# Altium footprint library develboard_footprint.PcbLib: 1 footprints
Each footprint in its own frame and in the unit in brackets; x right, y up, seen from the top. Pads: shape width x height; smd on the part's side, far side on the other; paste and mask are expansions set on the pad; w line width, h text height; cw(c..) or ccw(c..) is an arc to the next point about the centre after c.
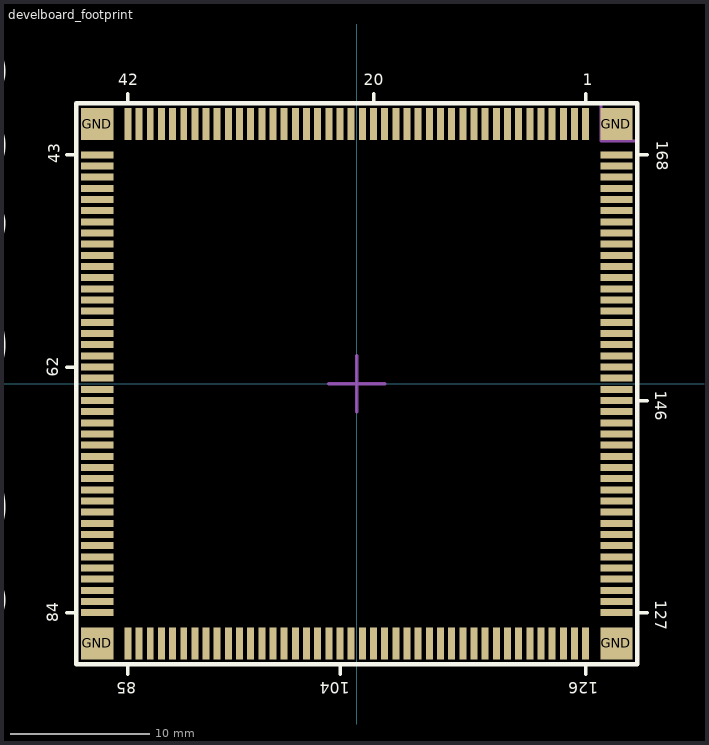
[diagram p0: the footprint, top view; thin cyan lines are the x and y axes]

## develboard_footprint [mm] "Develer srl - DevelBoard Footprint 38x38mm"
pads (172):
  rect 0.5x2.3 smd: 1(16.4,18.6) 2(15.6,18.6) 3(14.8,18.6) 4(14,18.6) 5(13.2,18.6) 6(12.4,18.6) 7(11.6,18.6) 8(10.8,18.6) 9(10,18.6) 10(9.2,18.6) 11(8.4,18.6) 12(7.6,18.6) 13(6.8,18.6) 14(6,18.6) 15(5.2,18.6) 16(4.4,18.6) 17(3.6,18.6) 18(2.8,18.6) 19(2,18.6) 20(1.2,18.6) 21(0.4,18.6) 22(-0.4,18.6) 23(-1.2,18.6) 24(-2,18.6) 25(-2.8,18.6) 26(-3.6,18.6) 27(-4.4,18.6) 28(-5.2,18.6) 29(-6,18.6) 30(-6.8,18.6) 31(-7.6,18.6) 32(-8.4,18.6) 33(-9.2,18.6) 34(-10,18.6) 35(-10.8,18.6) 36(-11.6,18.6) 37(-12.4,18.6) 38(-13.2,18.6) 39(-14,18.6) 40(-14.8,18.6) 41(-15.6,18.6) 42(-16.4,18.6) 85(-16.4,-18.6) 86(-15.6,-18.6) 87(-14.8,-18.6) 88(-14,-18.6) 89(-13.2,-18.6) 90(-12.4,-18.6) 91(-11.6,-18.6) 92(-10.8,-18.6) 93(-10,-18.6) 94(-9.2,-18.6) 95(-8.4,-18.6) 96(-7.6,-18.6) 97(-6.8,-18.6) 98(-6,-18.6) 99(-5.2,-18.6) 100(-4.4,-18.6) 101(-3.6,-18.6) 102(-2.8,-18.6) 103(-2,-18.6) 104(-1.2,-18.6) 105(-0.4,-18.6) 106(0.4,-18.6) 107(1.2,-18.6) 108(2,-18.6) 109(2.8,-18.6) 110(3.6,-18.6) 111(4.4,-18.6) 112(5.2,-18.6) 113(6,-18.6) 114(6.8,-18.6) 115(7.6,-18.6) 116(8.4,-18.6) 117(9.2,-18.6) 118(10,-18.6) 119(10.8,-18.6) 120(11.6,-18.6) 121(12.4,-18.6) 122(13.2,-18.6) 123(14,-18.6) 124(14.8,-18.6) 125(15.6,-18.6) 126(16.4,-18.6)
  rect 2.3x0.5 smd: 43(-18.6,16.4) 44(-18.6,15.6) 45(-18.6,14.8) 46(-18.6,14) 47(-18.6,13.2) 48(-18.6,12.4) 49(-18.6,11.6) 50(-18.6,10.8) 51(-18.6,10) 52(-18.6,9.2) 53(-18.6,8.4) 54(-18.6,7.6) 55(-18.6,6.8) 56(-18.6,6) 57(-18.6,5.2) 58(-18.6,4.4) 59(-18.6,3.6) 60(-18.6,2.8) 61(-18.6,2) 62(-18.6,1.2) 63(-18.6,0.4) 64(-18.6,-0.4) 65(-18.6,-1.2) 66(-18.6,-2) 67(-18.6,-2.8) 68(-18.6,-3.6) 69(-18.6,-4.4) 70(-18.6,-5.2) 71(-18.6,-6) 72(-18.6,-6.8) 73(-18.6,-7.6) 74(-18.6,-8.4) 75(-18.6,-9.2) 76(-18.6,-10) 77(-18.6,-10.8) 78(-18.6,-11.6) 79(-18.6,-12.4) 80(-18.6,-13.2) 81(-18.6,-14) 82(-18.6,-14.8) 83(-18.6,-15.6) 84(-18.6,-16.4) 127(18.6,-16.4) 128(18.6,-15.6) 129(18.6,-14.8) 130(18.6,-14) 131(18.6,-13.2) 132(18.6,-12.4) 133(18.6,-11.6) 134(18.6,-10.8) 135(18.6,-10) 136(18.6,-9.2) 137(18.6,-8.4) 138(18.6,-7.6) 139(18.6,-6.8) 140(18.6,-6) 141(18.6,-5.2) 142(18.6,-4.4) 143(18.6,-3.6) 144(18.6,-2.8) 145(18.6,-2) 146(18.6,-1.2) 147(18.6,-0.4) 148(18.6,0.4) 149(18.6,1.2) 150(18.6,2) 151(18.6,2.8) 152(18.6,3.6) 153(18.6,4.4) 154(18.6,5.2) 155(18.6,6) 156(18.6,6.8) 157(18.6,7.6) 158(18.6,8.4) 159(18.6,9.2) 160(18.6,10) 161(18.6,10.8) 162(18.6,11.6) 163(18.6,12.4) 164(18.6,13.2) 165(18.6,14) 166(18.6,14.8) 167(18.6,15.6) 168(18.6,16.4)
  rect 2.3x2.3 smd: GND(-18.6,-18.6) GND(-18.6,18.6) GND(18.6,-18.6) GND(18.6,18.6)
Top Overlay:
  lines w0.25: -20.8,-16.4 -20.1,-16.4 ; -20.8,1.2 -20.1,1.2 ; -20.8,16.4 -20.1,16.4 ; -16.4,-20.8 -16.4,-20.1 ; -16.4,20.1 -16.4,20.8 ; -1.2,-20.8 -1.2,-20.1 ; 1.2,20.1 1.2,20.8 ; 16.4,-20.8 16.4,-20.1 ; 16.4,20.1 16.4,20.8 ; 20.1,-16.4 20.8,-16.4 ; 20.1,-1.2 20.8,-1.2 ; 20.1,16.4 20.8,16.4
  lines w0.3: -20.1,-20.1 -20.1,20.1 20.1,20.1 20.1,-20.1 -20.1,-20.1
  text "127" at 21.1,-15.5 h1.4
  text "168" at 21.2,17.4 h1.4
  text "146" at 21.1,-0.5 h1.4
  text "126" at 17.3,-21.1 h1.4
  text "85" at -15.8,-21.1 h1.4
  text "104" at -0.5,-21.1 h1.4
  text "84" at -21.088,-17.1 h1.4
  text "43" at -21,15.8 h1.4
  text "62" at -21.1,0.5 h1.4
  text "20" at 0.5,21.1 h1.4
  text "develboard" at -23,-18.2 h12
  text "1" at 16.2,21.088 h1.4
  text "42" at -17.1,21.088 h1.4
Assembly_top:
  lines w0.2: 17.5,20 17.5,17.4 20.1,17.4 ; -20.1,-20.1 -20.1,20.1 20.1,20.1 20.1,-20.1 -20.1,-20.1
  text "1" at 18.5,18.1 h2
  text ".designator" at -16.8,-0.7 h5
Note_top:
  lines w0.2: 17.5,20 17.5,17.4 20.1,17.4 ; -20.1,-20.1 -20.1,20.1 20.1,20.1 20.1,-20.1 -20.1,-20.1
  lines w0.25: -2,0 2,0 ; 0,-2 0,2
  text "1" at 18.5,18.1 h2
  text ".comment" at -16.6,-14.8 h5
  text ".designator" at -16.6,12.4 h5
Place_top:
  lines w0.25: -2,0 2,0 ; 0,-2 0,2 ; -1.45,0 1.45,0 -1.45,0 ; 0,-1.45 0,1.45 0,-1.45
3D body: height 2.35, standoff -0.32, extent -19.1,-19 18.9,19